# Altium integrated library capacitor_murata_1210.IntLib: 200 symbols (part 1 of 4)
Pins are listed as number, name and electrical type; pins without a type are passive.

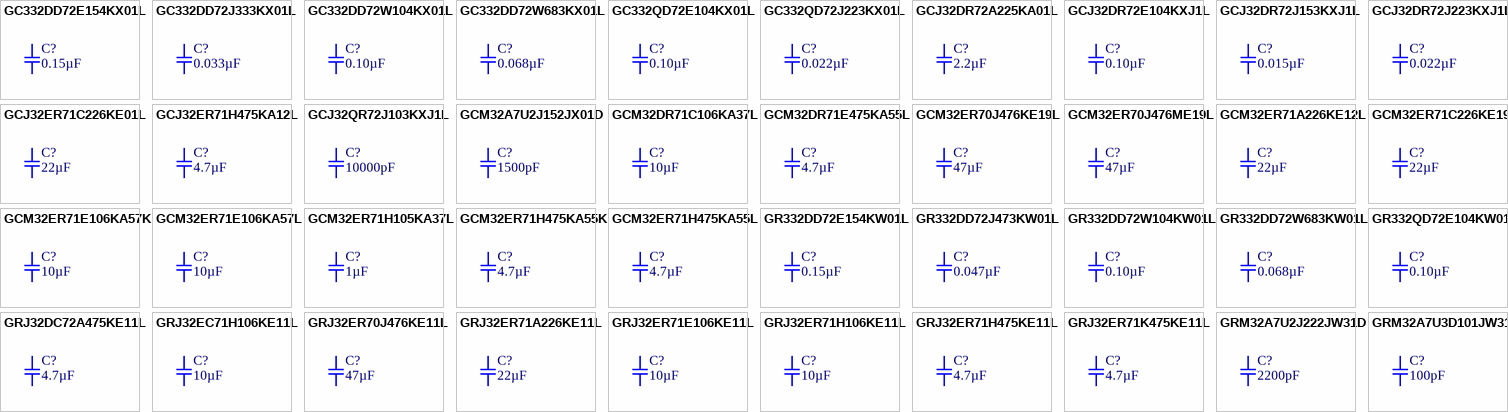
[diagram p0: symbols GC332DD72E154KX01L to GRM32A7U3D101JW31D]

## GC332DD72E154KX01L
designator C?, comment 0.15µF
CAP CER 0.15UF 250V X7T 1210; Part Number: GC332DD72E154KX01L; Manufacturer: Murata Electronics North America; Factory Stock: 0; Unit Price (USD): 1.1; Minimum Quantity: 1; Tolerance: ±10%; Datasheets: http://search.murata.co.jp/Ceramy/image/img/A01X/G101/ENG/GC332DD72E154KX01-01.pdf; Image: //media.digikey.com/Renders/Murata%20Renders/1210(GC3)320x200x250.jpg; Digi-Key Part Number: 490-13999-1-ND; Quantity Available: 997; @ qty: 0; Packaging: Cut Tape (CT); Series: GC3; Part Status: Active; Value: 0.15µF; Voltage: 250V; Temperature Coefficient: X7T; Operating Temperature: -55°C ~ 125°C; Features: -; Ratings: AEC-Q200; Applications: Automotive; Failure Rate: Surface Mount, MLCC; Mounting Type: 1210 (3225 Metric); Package / Case: 0.126" L x 0.098" W (3.20mm x 2.50mm); Size / Dimension: -; Height - Seated (Max): 0.079" (2.00mm); Thickness (Max): -; Lead Spacing: -
footprint SMD-1210C
pins: 1, 2

## GC332DD72J333KX01L
designator C?, comment 0.033µF
CAP CER 0.033UF 630V X7T 1210; Part Number: GC332DD72J333KX01L; Manufacturer: Murata Electronics North America; Factory Stock: 0; Unit Price (USD): 0.81; Minimum Quantity: 1; Tolerance: ±10%; Datasheets: http://search.murata.co.jp/Ceramy/image/img/A01X/G101/ENG/GC332DD72J333KX01-01.pdf; Image: //media.digikey.com/Renders/Murata%20Renders/1210(GC3)320x200x250.jpg; Digi-Key Part Number: 490-14000-1-ND; Quantity Available: 1000; @ qty: 0; Packaging: Cut Tape (CT); Series: GC3; Part Status: Active; Value: 0.033µF; Voltage: 630V; Temperature Coefficient: X7T; Operating Temperature: -55°C ~ 125°C; Features: -; Ratings: AEC-Q200; Applications: Automotive; Failure Rate: Surface Mount, MLCC; Mounting Type: 1210 (3225 Metric); Package / Case: 0.126" L x 0.098" W (3.20mm x 2.50mm); Size / Dimension: -; Height - Seated (Max): 0.079" (2.00mm); Thickness (Max): -; Lead Spacing: -
footprint SMD-1210C
pins: 1, 2

## GC332DD72W104KX01L
designator C?, comment 0.10µF
CAP CER 0.1UF 450V X7T 1210; Part Number: GC332DD72W104KX01L; Manufacturer: Murata Electronics North America; Factory Stock: 0; Unit Price (USD): 1.04; Minimum Quantity: 1; Tolerance: ±10%; Datasheets: http://search.murata.co.jp/Ceramy/image/img/A01X/G101/ENG/GC332DD72W104KX01-01.pdf; Image: //media.digikey.com/Renders/Murata%20Renders/1210(GC3)320x200x250.jpg; Digi-Key Part Number: 490-14002-1-ND; Quantity Available: 810; @ qty: 0; Packaging: Cut Tape (CT); Series: GC3; Part Status: Active; Value: 0.10µF; Voltage: 450V; Temperature Coefficient: X7T; Operating Temperature: -55°C ~ 125°C; Features: -; Ratings: AEC-Q200; Applications: Automotive; Failure Rate: Surface Mount, MLCC; Mounting Type: 1210 (3225 Metric); Package / Case: 0.126" L x 0.098" W (3.20mm x 2.50mm); Size / Dimension: -; Height - Seated (Max): 0.079" (2.00mm); Thickness (Max): -; Lead Spacing: -
footprint SMD-1210C
pins: 1, 2

## GC332DD72W683KX01L
designator C?, comment 0.068µF
CAP CER 0.068UF 450V X7T 1210; Part Number: GC332DD72W683KX01L; Manufacturer: Murata Electronics North America; Factory Stock: 0; Unit Price (USD): 1.01; Minimum Quantity: 1; Tolerance: ±10%; Datasheets: http://search.murata.co.jp/Ceramy/image/img/A01X/G101/ENG/GC332DD72W683KX01-01.pdf; Image: //media.digikey.com/Renders/Murata%20Renders/1210(GC3)320x200x250.jpg; Digi-Key Part Number: 490-14003-1-ND; Quantity Available: 901; @ qty: 0; Packaging: Cut Tape (CT); Series: GC3; Part Status: Active; Value: 0.068µF; Voltage: 450V; Temperature Coefficient: X7T; Operating Temperature: -55°C ~ 125°C; Features: -; Ratings: AEC-Q200; Applications: Automotive; Failure Rate: Surface Mount, MLCC; Mounting Type: 1210 (3225 Metric); Package / Case: 0.126" L x 0.098" W (3.20mm x 2.50mm); Size / Dimension: -; Height - Seated (Max): 0.079" (2.00mm); Thickness (Max): -; Lead Spacing: -
footprint SMD-1210C
pins: 1, 2

## GC332QD72E104KX01L
designator C?, comment 0.10µF
CAP CER 0.1UF 250V X7T 1210; Part Number: GC332QD72E104KX01L; Manufacturer: Murata Electronics North America; Factory Stock: 0; Unit Price (USD): 0.74; Minimum Quantity: 1; Tolerance: ±10%; Datasheets: http://search.murata.co.jp/Ceramy/image/img/A01X/G101/ENG/GC332QD72E104KX01-01.pdf; Image: //media.digikey.com/Renders/Murata%20Renders/1210(GC3)320x200x250.jpg; Digi-Key Part Number: 490-14004-1-ND; Quantity Available: 1843; @ qty: 0; Packaging: Cut Tape (CT); Series: GC3; Part Status: Active; Value: 0.10µF; Voltage: 250V; Temperature Coefficient: X7T; Operating Temperature: -55°C ~ 125°C; Features: -; Ratings: AEC-Q200; Applications: Automotive; Failure Rate: Surface Mount, MLCC; Mounting Type: 1210 (3225 Metric); Package / Case: 0.126" L x 0.098" W (3.20mm x 2.50mm); Size / Dimension: -; Height - Seated (Max): 0.059" (1.50mm); Thickness (Max): -; Lead Spacing: -
footprint SMD-1210C
pins: 1, 2

## GC332QD72J223KX01L
designator C?, comment 0.022µF
CAP CER 0.022UF 630V X7T 1210; Part Number: GC332QD72J223KX01L; Manufacturer: Murata Electronics North America; Factory Stock: 0; Unit Price (USD): 0.8; Minimum Quantity: 1; Tolerance: ±10%; Datasheets: http://search.murata.co.jp/Ceramy/image/img/A01X/G101/ENG/GC332QD72J223KX01-01.pdf; Image: //media.digikey.com/Renders/Murata%20Renders/1210(GC3)320x200x250.jpg; Digi-Key Part Number: 490-14005-1-ND; Quantity Available: 2000; @ qty: 0; Packaging: Cut Tape (CT); Series: GC3; Part Status: Active; Value: 0.022µF; Voltage: 630V; Temperature Coefficient: X7T; Operating Temperature: -55°C ~ 125°C; Features: -; Ratings: AEC-Q200; Applications: Automotive; Failure Rate: Surface Mount, MLCC; Mounting Type: 1210 (3225 Metric); Package / Case: 0.126" L x 0.098" W (3.20mm x 2.50mm); Size / Dimension: -; Height - Seated (Max): 0.059" (1.50mm); Thickness (Max): -; Lead Spacing: -
footprint SMD-1210C
pins: 1, 2

## GCJ32DR72A225KA01L
designator C?, comment 2.2µF
CAP CER 2.2UF 100V X7R 1210; Part Number: GCJ32DR72A225KA01L; Manufacturer: Murata Electronics North America; Factory Stock: 0; Unit Price (USD): 1.5; Minimum Quantity: 1; Tolerance: ±10%; Datasheets: http://www.murata.com/~/media/webrenewal/support/library/catalog/products/capacitor/mlcc/c03e.ashx; Image: //media.digikey.com/Renders/Murata%20Renders/1210-32R.jpg; Digi-Key Part Number: 490-5840-1-ND; Quantity Available: 84171; @ qty: 0; Packaging: Cut Tape (CT); Series: GCJ; Part Status: Active; Value: 2.2µF; Voltage: 100V; Temperature Coefficient: X7R; Operating Temperature: -55°C ~ 125°C; Features: Soft Termination; Ratings: AEC-Q200; Applications: Automotive, Boardflex Sensitive; Failure Rate: Surface Mount, MLCC; Mounting Type: 1210 (3225 Metric); Package / Case: 0.126" L x 0.098" W (3.20mm x 2.50mm); Size / Dimension: -; Height - Seated (Max): 0.079" (2.00mm); Thickness (Max): -; Lead Spacing: -
footprint SMD-1210C
pins: 1, 2

## GCJ32DR72E104KXJ1L
designator C?, comment 0.10µF
CAP CER 0.1UF 250V X7R 1210; Part Number: GCJ32DR72E104KXJ1L; Manufacturer: Murata Electronics North America; Factory Stock: 0; Unit Price (USD): 0.65; Minimum Quantity: 1; Tolerance: ±10%; Datasheets: http://www.murata.com/~/media/webrenewal/support/library/catalog/products/capacitor/mlcc/c03e.ashx; Image: //media.digikey.com/Renders/Murata%20Renders/1210-32R.jpg; Digi-Key Part Number: 490-5601-1-ND; Quantity Available: 598; @ qty: 0; Packaging: Cut Tape (CT); Series: GCJ; Part Status: Active; Value: 0.10µF; Voltage: 250V; Temperature Coefficient: X7R; Operating Temperature: -55°C ~ 125°C; Features: Soft Termination; Ratings: AEC-Q200; Applications: Automotive, Boardflex Sensitive; Failure Rate: Surface Mount, MLCC; Mounting Type: 1210 (3225 Metric); Package / Case: 0.126" L x 0.098" W (3.20mm x 2.50mm); Size / Dimension: -; Height - Seated (Max): 0.079" (2.00mm); Thickness (Max): -; Lead Spacing: -
footprint SMD-1210C
pins: 1, 2

## GCJ32DR72J153KXJ1L
designator C?, comment 0.015µF
CAP CER 0.015UF 630V X7R 1210; Part Number: GCJ32DR72J153KXJ1L; Manufacturer: Murata Electronics North America; Factory Stock: 0; Unit Price (USD): 0.81; Minimum Quantity: 1; Tolerance: ±10%; Datasheets: http://www.murata.com/~/media/webrenewal/support/library/catalog/products/capacitor/mlcc/c03e.ashx; Image: //media.digikey.com/Renders/Murata%20Renders/1210-32R.jpg; Digi-Key Part Number: 490-5613-1-ND; Quantity Available: 1158; @ qty: 0; Packaging: Cut Tape (CT); Series: GCJ; Part Status: Active; Value: 0.015µF; Voltage: 630V; Temperature Coefficient: X7R; Operating Temperature: -55°C ~ 125°C; Features: Soft Termination; Ratings: AEC-Q200; Applications: Automotive, Boardflex Sensitive; Failure Rate: Surface Mount, MLCC; Mounting Type: 1210 (3225 Metric); Package / Case: 0.126" L x 0.098" W (3.20mm x 2.50mm); Size / Dimension: -; Height - Seated (Max): 0.079" (2.00mm); Thickness (Max): -; Lead Spacing: -
footprint SMD-1210C
pins: 1, 2

## GCJ32DR72J223KXJ1L
designator C?, comment 0.022µF
CAP CER 0.022UF 630V X7R 1210; Part Number: GCJ32DR72J223KXJ1L; Manufacturer: Murata Electronics North America; Factory Stock: 0; Unit Price (USD): 0.81; Minimum Quantity: 1; Tolerance: ±10%; Datasheets: http://www.murata.com/~/media/webrenewal/support/library/catalog/products/capacitor/mlcc/c03e.ashx; Image: //media.digikey.com/Renders/Murata%20Renders/1210-32R.jpg; Digi-Key Part Number: 490-5614-1-ND; Quantity Available: 1747; @ qty: 0; Packaging: Cut Tape (CT); Series: GCJ; Part Status: Active; Value: 0.022µF; Voltage: 630V; Temperature Coefficient: X7R; Operating Temperature: -55°C ~ 125°C; Features: Soft Termination; Ratings: AEC-Q200; Applications: Automotive, Boardflex Sensitive; Failure Rate: Surface Mount, MLCC; Mounting Type: 1210 (3225 Metric); Package / Case: 0.126" L x 0.098" W (3.20mm x 2.50mm); Size / Dimension: -; Height - Seated (Max): 0.079" (2.00mm); Thickness (Max): -; Lead Spacing: -
footprint SMD-1210C
pins: 1, 2

## GCJ32ER71C226KE01L
designator C?, comment 22µF
CAP CER 22UF 16V X7R 1210; Part Number: GCJ32ER71C226KE01L; Manufacturer: Murata Electronics North America; Factory Stock: 0; Unit Price (USD): 1.37; Minimum Quantity: 1; Tolerance: ±10%; Datasheets: http://www.murata.com/~/media/webrenewal/support/library/catalog/products/capacitor/mlcc/c03e.ashx; Image: //media.digikey.com/Renders/Murata%20Renders/1210-32R.jpg; Digi-Key Part Number: 490-10560-1-ND; Quantity Available: 14766; @ qty: 0; Packaging: Cut Tape (CT); Series: GCJ; Part Status: Active; Value: 22µF; Voltage: 16V; Temperature Coefficient: X7R; Operating Temperature: -55°C ~ 125°C; Features: Soft Termination; Ratings: AEC-Q200; Applications: Automotive, Boardflex Sensitive; Failure Rate: Surface Mount, MLCC; Mounting Type: 1210 (3225 Metric); Package / Case: 0.126" L x 0.098" W (3.20mm x 2.50mm); Size / Dimension: -; Height - Seated (Max): 0.110" (2.80mm); Thickness (Max): -; Lead Spacing: -
footprint SMD-1210C
pins: 1, 2

## GCJ32ER71H475KA12L
designator C?, comment 4.7µF
CAP CER 4.7UF 50V X7R 1210; Part Number: GCJ32ER71H475KA12L; Manufacturer: Murata Electronics North America; Factory Stock: 0; Unit Price (USD): 1.64; Minimum Quantity: 1; Tolerance: ±10%; Datasheets: http://www.murata.com/~/media/webrenewal/support/library/catalog/products/capacitor/mlcc/c03e.ashx; Image: //media.digikey.com/Renders/Murata%20Renders/1210-32R.jpg; Digi-Key Part Number: 490-5850-1-ND; Quantity Available: 2424; @ qty: 0; Packaging: Cut Tape (CT); Series: GCJ; Part Status: Active; Value: 4.7µF; Voltage: 50V; Temperature Coefficient: X7R; Operating Temperature: -55°C ~ 125°C; Features: Soft Termination; Ratings: AEC-Q200; Applications: Automotive, Boardflex Sensitive; Failure Rate: Surface Mount, MLCC; Mounting Type: 1210 (3225 Metric); Package / Case: 0.126" L x 0.098" W (3.20mm x 2.50mm); Size / Dimension: -; Height - Seated (Max): 0.110" (2.80mm); Thickness (Max): -; Lead Spacing: -
footprint SMD-1210C
pins: 1, 2

## GCJ32QR72J103KXJ1L
designator C?, comment 10000pF
CAP CER 10000PF 630V X7R 1210; Part Number: GCJ32QR72J103KXJ1L; Manufacturer: Murata Electronics North America; Factory Stock: 0; Unit Price (USD): 0.77; Minimum Quantity: 1; Tolerance: ±10%; Datasheets: http://www.murata.com/~/media/webrenewal/support/library/catalog/products/capacitor/mlcc/c03e.ashx; Image: //media.digikey.com/Renders/Murata%20Renders/1210-32R.jpg; Digi-Key Part Number: 490-5612-1-ND; Quantity Available: 36455; @ qty: 0; Packaging: Cut Tape (CT); Series: GCJ; Part Status: Active; Value: 10000pF; Voltage: 630V; Temperature Coefficient: X7R; Operating Temperature: -55°C ~ 125°C; Features: Soft Termination; Ratings: AEC-Q200; Applications: Automotive, Boardflex Sensitive; Failure Rate: Surface Mount, MLCC; Mounting Type: 1210 (3225 Metric); Package / Case: 0.126" L x 0.098" W (3.20mm x 2.50mm); Size / Dimension: -; Height - Seated (Max): 0.059" (1.50mm); Thickness (Max): -; Lead Spacing: -
footprint SMD-1210C
pins: 1, 2

## GCM32A7U2J152JX01D
designator C?, comment 1500pF
CAP CER 1500PF 630V U2J 1210; Part Number: GCM32A7U2J152JX01D; Manufacturer: Murata Electronics North America; Factory Stock: 0; Unit Price (USD): 1.05; Minimum Quantity: 1; Tolerance: ±5%; Datasheets: http://www.murata.com/~/media/webrenewal/support/library/catalog/products/capacitor/mlcc/c03e.ashx; Image: //media.digikey.com/Renders/Murata%20Renders/1210-GCM.jpg; Digi-Key Part Number: 490-5050-1-ND; Quantity Available: 1229; @ qty: 0; Packaging: Cut Tape (CT); Series: GCM; Part Status: Active; Value: 1500pF; Voltage: 630V; Temperature Coefficient: U2J; Operating Temperature: -55°C ~ 125°C; Features: -; Ratings: AEC-Q200; Applications: Automotive; Failure Rate: Surface Mount, MLCC; Mounting Type: 1210 (3225 Metric); Package / Case: 0.126" L x 0.098" W (3.20mm x 2.50mm); Size / Dimension: -; Height - Seated (Max): 0.039" (1.00mm); Thickness (Max): -; Lead Spacing: -
footprint SMD-1210C
pins: 1, 2

## GCM32DR71C106KA37L
designator C?, comment 10µF
CAP CER 10UF 16V X7R 1210; Part Number: GCM32DR71C106KA37L; Manufacturer: Murata Electronics North America; Factory Stock: 0; Unit Price (USD): 1.15; Minimum Quantity: 1; Tolerance: ±10%; Datasheets: http://www.murata.com/~/media/webrenewal/support/library/catalog/products/capacitor/mlcc/c03e.ashx; Image: //media.digikey.com/Renders/Murata%20Renders/1210-32D.jpg; Digi-Key Part Number: 490-8062-1-ND; Quantity Available: 8543; @ qty: 0; Packaging: Cut Tape (CT); Series: GCM; Part Status: Active; Value: 10µF; Voltage: 16V; Temperature Coefficient: X7R; Operating Temperature: -55°C ~ 125°C; Features: -; Ratings: AEC-Q200; Applications: Automotive; Failure Rate: Surface Mount, MLCC; Mounting Type: 1210 (3225 Metric); Package / Case: 0.126" L x 0.098" W (3.20mm x 2.50mm); Size / Dimension: -; Height - Seated (Max): 0.087" (2.20mm); Thickness (Max): -; Lead Spacing: -
footprint SMD-1210C
pins: 1, 2

## GCM32DR71E475KA55L
designator C?, comment 4.7µF
CAP CER 4.7UF 25V X7R 1210; Part Number: GCM32DR71E475KA55L; Manufacturer: Murata Electronics North America; Factory Stock: 0; Unit Price (USD): 1.11; Minimum Quantity: 1; Tolerance: ±10%; Datasheets: http://www.murata.com/~/media/webrenewal/support/library/catalog/products/capacitor/mlcc/c03e.ashx; Image: //media.digikey.com/Renders/Murata%20Renders/1210-32D.jpg; Digi-Key Part Number: 490-8063-1-ND; Quantity Available: 14280; @ qty: 0; Packaging: Cut Tape (CT); Series: GCM; Part Status: Active; Value: 4.7µF; Voltage: 25V; Temperature Coefficient: X7R; Operating Temperature: -55°C ~ 125°C; Features: -; Ratings: AEC-Q200; Applications: Automotive; Failure Rate: Surface Mount, MLCC; Mounting Type: 1210 (3225 Metric); Package / Case: 0.126" L x 0.098" W (3.20mm x 2.50mm); Size / Dimension: -; Height - Seated (Max): 0.087" (2.20mm); Thickness (Max): -; Lead Spacing: -
footprint SMD-1210C
pins: 1, 2

## GCM32ER70J476KE19L
designator C?, comment 47µF
CAP CER 47UF 6.3V X7R 1210; Part Number: GCM32ER70J476KE19L; Manufacturer: Murata Electronics North America; Factory Stock: 0; Unit Price (USD): 1.24; Minimum Quantity: 1; Tolerance: ±10%; Datasheets: http://www.murata.com/~/media/webrenewal/support/library/catalog/products/capacitor/mlcc/c03e.ashx; Image: //media.digikey.com/Renders/Murata%20Renders/1210-32E.jpg; Digi-Key Part Number: 490-4844-1-ND; Quantity Available: 7834; @ qty: 0; Packaging: Cut Tape (CT); Series: GCM; Part Status: Active; Value: 47µF; Voltage: 6.3V; Temperature Coefficient: X7R; Operating Temperature: -55°C ~ 125°C; Features: -; Ratings: AEC-Q200; Applications: Automotive; Failure Rate: Surface Mount, MLCC; Mounting Type: 1210 (3225 Metric); Package / Case: 0.126" L x 0.098" W (3.20mm x 2.50mm); Size / Dimension: -; Height - Seated (Max): 0.106" (2.70mm); Thickness (Max): -; Lead Spacing: -
footprint SMD-1210C
pins: 1, 2

## GCM32ER70J476ME19L
designator C?, comment 47µF
CAP CER 47UF 6.3V X7R 1210; Part Number: GCM32ER70J476ME19L; Manufacturer: Murata Electronics North America; Factory Stock: 0; Unit Price (USD): 2.26; Minimum Quantity: 1; Tolerance: ±20%; Datasheets: http://www.murata.com/~/media/webrenewal/support/library/catalog/products/capacitor/mlcc/c03e.ashx; Image: //media.digikey.com/Renders/Murata%20Renders/1210-32E.jpg; Digi-Key Part Number: 490-8064-1-ND; Quantity Available: 3492; @ qty: 0; Packaging: Cut Tape (CT); Series: GCM; Part Status: Active; Value: 47µF; Voltage: 6.3V; Temperature Coefficient: X7R; Operating Temperature: -55°C ~ 125°C; Features: -; Ratings: AEC-Q200; Applications: Automotive; Failure Rate: Surface Mount, MLCC; Mounting Type: 1210 (3225 Metric); Package / Case: 0.126" L x 0.098" W (3.20mm x 2.50mm); Size / Dimension: -; Height - Seated (Max): 0.106" (2.70mm); Thickness (Max): -; Lead Spacing: -
footprint SMD-1210C
pins: 1, 2

## GCM32ER71A226KE12L
designator C?, comment 22µF
CAP CER 22UF 10V X7R 1210; Part Number: GCM32ER71A226KE12L; Manufacturer: Murata Electronics North America; Factory Stock: 0; Unit Price (USD): 1.59; Minimum Quantity: 1; Tolerance: ±10%; Datasheets: http://www.murata.com/~/media/webrenewal/support/library/catalog/products/capacitor/mlcc/c03e.ashx; Image: //media.digikey.com/Renders/Murata%20Renders/1210-32E.jpg; Digi-Key Part Number: 490-4797-1-ND; Quantity Available: 5208; @ qty: 0; Packaging: Cut Tape (CT); Series: GCM; Part Status: Active; Value: 22µF; Voltage: 10V; Temperature Coefficient: X7R; Operating Temperature: -55°C ~ 125°C; Features: -; Ratings: AEC-Q200; Applications: Automotive; Failure Rate: Surface Mount, MLCC; Mounting Type: 1210 (3225 Metric); Package / Case: 0.126" L x 0.098" W (3.20mm x 2.50mm); Size / Dimension: -; Height - Seated (Max): 0.106" (2.70mm); Thickness (Max): -; Lead Spacing: -
footprint SMD-1210C
pins: 1, 2

## GCM32ER71C226KE19L
designator C?, comment 22µF
CAP CER 22UF 16V X7R 1210; Part Number: GCM32ER71C226KE19L; Manufacturer: Murata Electronics North America; Factory Stock: 0; Unit Price (USD): 2.11; Minimum Quantity: 1; Tolerance: ±10%; Datasheets: http://www.murata.com/~/media/webrenewal/support/library/catalog/products/capacitor/mlcc/c03e.ashx; Image: //media.digikey.com/Renders/Murata%20Renders/1210-32E.jpg; Digi-Key Part Number: 490-5242-1-ND; Quantity Available: 6640; @ qty: 0; Packaging: Cut Tape (CT); Series: GCM; Part Status: Active; Value: 22µF; Voltage: 16V; Temperature Coefficient: X7R; Operating Temperature: -55°C ~ 125°C; Features: -; Ratings: AEC-Q200; Applications: Automotive; Failure Rate: Surface Mount, MLCC; Mounting Type: 1210 (3225 Metric); Package / Case: 0.126" L x 0.098" W (3.20mm x 2.50mm); Size / Dimension: -; Height - Seated (Max): 0.106" (2.70mm); Thickness (Max): -; Lead Spacing: -
footprint SMD-1210C
pins: 1, 2

## GCM32ER71E106KA57K
designator C?, comment 10µF
CAP CER 10UF 25V X7R 1210; Part Number: GCM32ER71E106KA57K; Manufacturer: Murata Electronics North America; Factory Stock: 0; Unit Price (USD): 0.88; Minimum Quantity: 1; Tolerance: ±10%; Datasheets: http://www.murata.com/~/media/webrenewal/support/library/catalog/products/capacitor/mlcc/c03e.ashx; Image: //media.digikey.com/photos/Murata%20Photos/GCM32ER71E106KA57L.JPG; Digi-Key Part Number: 490-11170-1-ND; Quantity Available: 5473; @ qty: 0; Packaging: Cut Tape (CT); Series: GCM; Part Status: Active; Value: 10µF; Voltage: 25V; Temperature Coefficient: X7R; Operating Temperature: -55°C ~ 125°C; Features: -; Ratings: AEC-Q200; Applications: Automotive; Failure Rate: Surface Mount, MLCC; Mounting Type: 1210 (3225 Metric); Package / Case: 0.126" L x 0.098" W (3.20mm x 2.50mm); Size / Dimension: -; Height - Seated (Max): 0.106" (2.70mm); Thickness (Max): -; Lead Spacing: -
footprint SMD-1210C
pins: 1, 2

## GCM32ER71E106KA57L
designator C?, comment 10µF
CAP CER 10UF 25V X7R 1210; Part Number: GCM32ER71E106KA57L; Manufacturer: Murata Electronics North America; Factory Stock: 0; Unit Price (USD): 0.88; Minimum Quantity: 1; Tolerance: ±10%; Datasheets: http://www.murata.com/~/media/webrenewal/support/library/catalog/products/capacitor/mlcc/c03e.ashx; Image: //media.digikey.com/Renders/Murata%20Renders/1210-32E.jpg; Digi-Key Part Number: 490-4798-1-ND; Quantity Available: 42787; @ qty: 0; Packaging: Cut Tape (CT); Series: GCM; Part Status: Active; Value: 10µF; Voltage: 25V; Temperature Coefficient: X7R; Operating Temperature: -55°C ~ 125°C; Features: -; Ratings: AEC-Q200; Applications: Automotive; Failure Rate: Surface Mount, MLCC; Mounting Type: 1210 (3225 Metric); Package / Case: 0.126" L x 0.098" W (3.20mm x 2.50mm); Size / Dimension: -; Height - Seated (Max): 0.106" (2.70mm); Thickness (Max): -; Lead Spacing: -
footprint SMD-1210C
pins: 1, 2

## GCM32ER71H105KA37L
designator C?, comment 1µF
CAP CER 1UF 50V X7R 1210; Part Number: GCM32ER71H105KA37L; Manufacturer: Murata Electronics North America; Factory Stock: 0; Unit Price (USD): 0.94; Minimum Quantity: 1; Tolerance: ±10%; Datasheets: http://www.murata.com/~/media/webrenewal/support/library/catalog/products/capacitor/mlcc/c03e.ashx; Image: //media.digikey.com/Renders/Murata%20Renders/1210-32E.jpg; Digi-Key Part Number: 490-8065-1-ND; Quantity Available: 178; @ qty: 0; Packaging: Cut Tape (CT); Series: GCM; Part Status: Active; Value: 1µF; Voltage: 50V; Temperature Coefficient: X7R; Operating Temperature: -55°C ~ 125°C; Features: -; Ratings: AEC-Q200; Applications: Automotive; Failure Rate: Surface Mount, MLCC; Mounting Type: 1210 (3225 Metric); Package / Case: 0.126" L x 0.098" W (3.20mm x 2.50mm); Size / Dimension: -; Height - Seated (Max): 0.106" (2.70mm); Thickness (Max): -; Lead Spacing: -
footprint SMD-1210C
pins: 1, 2

## GCM32ER71H475KA55K
designator C?, comment 4.7µF
CAP CER 4.7UF 50V X7R 1210; Part Number: GCM32ER71H475KA55K; Manufacturer: Murata Electronics North America; Factory Stock: 0; Unit Price (USD): 1.59; Minimum Quantity: 1; Tolerance: ±10%; Datasheets: http://www.murata.com/~/media/webrenewal/support/library/catalog/products/capacitor/mlcc/c03e.ashx; Image: //media.digikey.com/Renders/Murata%20Renders/1210-32E.jpg; Digi-Key Part Number: 490-8066-1-ND; Quantity Available: 37891; @ qty: 0; Packaging: Cut Tape (CT); Series: GCM; Part Status: Active; Value: 4.7µF; Voltage: 50V; Temperature Coefficient: X7R; Operating Temperature: -55°C ~ 125°C; Features: -; Ratings: AEC-Q200; Applications: Automotive; Failure Rate: Surface Mount, MLCC; Mounting Type: 1210 (3225 Metric); Package / Case: 0.126" L x 0.098" W (3.20mm x 2.50mm); Size / Dimension: -; Height - Seated (Max): 0.106" (2.70mm); Thickness (Max): -; Lead Spacing: -
footprint SMD-1210C
pins: 1, 2

## GCM32ER71H475KA55L
designator C?, comment 4.7µF
CAP CER 4.7UF 50V X7R 1210; Part Number: GCM32ER71H475KA55L; Manufacturer: Murata Electronics North America; Factory Stock: 0; Unit Price (USD): 1.59; Minimum Quantity: 1; Tolerance: ±10%; Datasheets: http://www.murata.com/~/media/webrenewal/support/library/catalog/products/capacitor/mlcc/c03e.ashx; Image: //media.digikey.com/Renders/Murata%20Renders/1210-32E.jpg; Digi-Key Part Number: 490-4799-1-ND; Quantity Available: 48126; @ qty: 0; Packaging: Cut Tape (CT); Series: GCM; Part Status: Active; Value: 4.7µF; Voltage: 50V; Temperature Coefficient: X7R; Operating Temperature: -55°C ~ 125°C; Features: -; Ratings: AEC-Q200; Applications: Automotive; Failure Rate: Surface Mount, MLCC; Mounting Type: 1210 (3225 Metric); Package / Case: 0.126" L x 0.098" W (3.20mm x 2.50mm); Size / Dimension: -; Height - Seated (Max): 0.106" (2.70mm); Thickness (Max): -; Lead Spacing: -
footprint SMD-1210C
pins: 1, 2

## GR332DD72E154KW01L
designator C?, comment 0.15µF
CAP CER 0.15UF 250V X7T 1210; Part Number: GR332DD72E154KW01L; Manufacturer: Murata Electronics North America; Factory Stock: 0; Unit Price (USD): 1.17; Minimum Quantity: 1; Tolerance: ±10%; Datasheets: http://www.murata.com/~/media/webrenewal/support/library/catalog/products/capacitor/mlcc/c02e.pdf; Image: //media.digikey.com/Renders/Murata%20Renders/1210-3225-16.jpg; Digi-Key Part Number: 490-5730-1-ND; Quantity Available: 1678; @ qty: 0; Packaging: Cut Tape (CT); Series: GR3; Part Status: Active; Value: 0.15µF; Voltage: 250V; Temperature Coefficient: X7T; Operating Temperature: -55°C ~ 125°C; Features: -; Ratings: -; Applications: General Purpose; Failure Rate: Surface Mount, MLCC; Mounting Type: 1210 (3225 Metric); Package / Case: 0.126" L x 0.098" W (3.20mm x 2.50mm); Size / Dimension: -; Height - Seated (Max): 0.079" (2.00mm); Thickness (Max): -; Lead Spacing: -
footprint SMD-1210C
pins: 1, 2

## GR332DD72J473KW01L
designator C?, comment 0.047µF
CAP CER 0.047UF 630V X7T 1210; Part Number: GR332DD72J473KW01L; Manufacturer: Murata Electronics North America; Factory Stock: 0; Unit Price (USD): 1.05; Minimum Quantity: 1; Tolerance: ±10%; Datasheets: http://www.murata.com/~/media/webrenewal/support/library/catalog/products/capacitor/mlcc/c02e.pdf; Image: //media.digikey.com/Renders/Murata%20Renders/1210-3225-16.jpg; Digi-Key Part Number: 490-5732-1-ND; Quantity Available: 2474; @ qty: 0; Packaging: Cut Tape (CT); Series: GR3; Part Status: Active; Value: 0.047µF; Voltage: 630V; Temperature Coefficient: X7T; Operating Temperature: -55°C ~ 125°C; Features: -; Ratings: -; Applications: General Purpose; Failure Rate: Surface Mount, MLCC; Mounting Type: 1210 (3225 Metric); Package / Case: 0.126" L x 0.098" W (3.20mm x 2.50mm); Size / Dimension: -; Height - Seated (Max): 0.079" (2.00mm); Thickness (Max): -; Lead Spacing: -
footprint SMD-1210C
pins: 1, 2

## GR332DD72W104KW01L
designator C?, comment 0.10µF
CAP CER 0.1UF 450V X7T 1210; Part Number: GR332DD72W104KW01L; Manufacturer: Murata Electronics North America; Factory Stock: 0; Unit Price (USD): 1.12; Minimum Quantity: 1; Tolerance: ±10%; Datasheets: http://www.murata.com/~/media/webrenewal/support/library/catalog/products/capacitor/mlcc/c02e.pdf; Image: //media.digikey.com/Renders/Murata%20Renders/1210-3225-16.jpg; Digi-Key Part Number: 490-5733-1-ND; Quantity Available: 7853; @ qty: 0; Packaging: Cut Tape (CT); Series: GR3; Part Status: Active; Value: 0.10µF; Voltage: 450V; Temperature Coefficient: X7T; Operating Temperature: -55°C ~ 125°C; Features: -; Ratings: -; Applications: General Purpose; Failure Rate: Surface Mount, MLCC; Mounting Type: 1210 (3225 Metric); Package / Case: 0.126" L x 0.098" W (3.20mm x 2.50mm); Size / Dimension: -; Height - Seated (Max): 0.079" (2.00mm); Thickness (Max): -; Lead Spacing: -
footprint SMD-1210C
pins: 1, 2

## GR332DD72W683KW01L
designator C?, comment 0.068µF
CAP CER 0.068UF 450V X7T 1210; Part Number: GR332DD72W683KW01L; Manufacturer: Murata Electronics North America; Factory Stock: 0; Unit Price (USD): 1.08; Minimum Quantity: 1; Tolerance: ±10%; Datasheets: http://www.murata.com/~/media/webrenewal/support/library/catalog/products/capacitor/mlcc/c02e.pdf; Image: //media.digikey.com/Renders/Murata%20Renders/1210-3225-16.jpg; Digi-Key Part Number: 490-5734-1-ND; Quantity Available: 1731; @ qty: 0; Packaging: Cut Tape (CT); Series: GR3; Part Status: Active; Value: 0.068µF; Voltage: 450V; Temperature Coefficient: X7T; Operating Temperature: -55°C ~ 125°C; Features: -; Ratings: -; Applications: General Purpose; Failure Rate: Surface Mount, MLCC; Mounting Type: 1210 (3225 Metric); Package / Case: 0.126" L x 0.098" W (3.20mm x 2.50mm); Size / Dimension: -; Height - Seated (Max): 0.079" (2.00mm); Thickness (Max): -; Lead Spacing: -
footprint SMD-1210C
pins: 1, 2

## GR332QD72E104KW01L
designator C?, comment 0.10µF
CAP CER 0.1UF 250V X7T 1210; Part Number: GR332QD72E104KW01L; Manufacturer: Murata Electronics North America; Factory Stock: 0; Unit Price (USD): 0.83; Minimum Quantity: 1; Tolerance: ±10%; Datasheets: http://www.murata.com/~/media/webrenewal/support/library/catalog/products/capacitor/mlcc/c02e.pdf; Image: //media.digikey.com/Renders/Murata%20Renders/1210-3225-16.jpg; Digi-Key Part Number: 490-5735-1-ND; Quantity Available: 6850; @ qty: 0; Packaging: Cut Tape (CT); Series: GR3; Part Status: Active; Value: 0.10µF; Voltage: 250V; Temperature Coefficient: X7T; Operating Temperature: -55°C ~ 125°C; Features: -; Ratings: -; Applications: General Purpose; Failure Rate: Surface Mount, MLCC; Mounting Type: 1210 (3225 Metric); Package / Case: 0.126" L x 0.098" W (3.20mm x 2.50mm); Size / Dimension: -; Height - Seated (Max): 0.059" (1.50mm); Thickness (Max): -; Lead Spacing: -
footprint SMD-1210C
pins: 1, 2

## GRJ32DC72A475KE11L
designator C?, comment 4.7µF
CAP CER 4.7UF 100V X7S 1210; Part Number: GRJ32DC72A475KE11L; Manufacturer: Murata Electronics North America; Factory Stock: 0; Unit Price (USD): 1.38; Minimum Quantity: 1; Tolerance: ±10%; Datasheets: http://www.murata.com/~/media/webrenewal/support/library/catalog/products/capacitor/mlcc/c02e.pdf; Image: //media.digikey.com/Renders/Murata%20Renders/1210-3225-16.jpg; Digi-Key Part Number: 490-10955-1-ND; Quantity Available: 9689; @ qty: 0; Packaging: Cut Tape (CT); Series: GRJ; Part Status: Active; Value: 4.7µF; Voltage: 100V; Temperature Coefficient: X7S; Operating Temperature: -55°C ~ 125°C; Features: Soft Termination; Ratings: -; Applications: Boardflex Sensitive; Failure Rate: Surface Mount, MLCC; Mounting Type: 1210 (3225 Metric); Package / Case: 0.126" L x 0.098" W (3.20mm x 2.50mm); Size / Dimension: -; Height - Seated (Max): 0.091" (2.30mm); Thickness (Max): -; Lead Spacing: -
footprint SMD-1210C
pins: 1, 2

## GRJ32EC71H106KE11L
designator C?, comment 10µF
CAP CER 10UF 50V X7S 1210; Part Number: GRJ32EC71H106KE11L; Manufacturer: Murata Electronics North America; Factory Stock: 0; Unit Price (USD): 1.16; Minimum Quantity: 1; Tolerance: ±10%; Datasheets: http://www.murata.com/~/media/webrenewal/support/library/catalog/products/capacitor/mlcc/c02e.pdf; Image: //media.digikey.com/Renders/Murata%20Renders/1210-3225-16.jpg; Digi-Key Part Number: 490-10956-1-ND; Quantity Available: 1076; @ qty: 0; Packaging: Cut Tape (CT); Series: GRJ; Part Status: Active; Value: 10µF; Voltage: 50V; Temperature Coefficient: X7S; Operating Temperature: -55°C ~ 125°C; Features: Soft Termination; Ratings: -; Applications: Boardflex Sensitive; Failure Rate: Surface Mount, MLCC; Mounting Type: 1210 (3225 Metric); Package / Case: 0.126" L x 0.098" W (3.20mm x 2.50mm); Size / Dimension: -; Height - Seated (Max): 0.110" (2.80mm); Thickness (Max): -; Lead Spacing: -
footprint SMD-1210C
pins: 1, 2

## GRJ32ER70J476KE11L
designator C?, comment 47µF
CAP CER 47UF 6.3V X7R 1210; Part Number: GRJ32ER70J476KE11L; Manufacturer: Murata Electronics North America; Factory Stock: 0; Unit Price (USD): 1.39; Minimum Quantity: 1; Tolerance: ±10%; Datasheets: http://www.murata.com/~/media/webrenewal/support/library/catalog/products/capacitor/mlcc/c02e.pdf; Image: //media.digikey.com/Renders/Murata%20Renders/1210-3225-16.jpg; Digi-Key Part Number: 490-10957-1-ND; Quantity Available: 2647; @ qty: 0; Packaging: Cut Tape (CT); Series: GRJ; Part Status: Active; Value: 47µF; Voltage: 6.3V; Temperature Coefficient: X7R; Operating Temperature: -55°C ~ 125°C; Features: Soft Termination; Ratings: -; Applications: Boardflex Sensitive; Failure Rate: Surface Mount, MLCC; Mounting Type: 1210 (3225 Metric); Package / Case: 0.126" L x 0.098" W (3.20mm x 2.50mm); Size / Dimension: -; Height - Seated (Max): 0.110" (2.80mm); Thickness (Max): -; Lead Spacing: -
footprint SMD-1210C
pins: 1, 2

## GRJ32ER71A226KE11L
designator C?, comment 22µF
CAP CER 22UF 10V X7R 1210; Part Number: GRJ32ER71A226KE11L; Manufacturer: Murata Electronics North America; Factory Stock: 0; Unit Price (USD): 1.21; Minimum Quantity: 1; Tolerance: ±10%; Datasheets: http://www.murata.com/~/media/webrenewal/support/library/catalog/products/capacitor/mlcc/c02e.pdf; Image: //media.digikey.com/Renders/Murata%20Renders/1210-3225-16.jpg; Digi-Key Part Number: 490-10958-1-ND; Quantity Available: 1905; @ qty: 0; Packaging: Cut Tape (CT); Series: GRJ; Part Status: Active; Value: 22µF; Voltage: 10V; Temperature Coefficient: X7R; Operating Temperature: -55°C ~ 125°C; Features: Soft Termination; Ratings: -; Applications: Boardflex Sensitive; Failure Rate: Surface Mount, MLCC; Mounting Type: 1210 (3225 Metric); Package / Case: 0.126" L x 0.098" W (3.20mm x 2.50mm); Size / Dimension: -; Height - Seated (Max): 0.110" (2.80mm); Thickness (Max): -; Lead Spacing: -
footprint SMD-1210C
pins: 1, 2

## GRJ32ER71E106KE11L
designator C?, comment 10µF
CAP CER 10UF 25V X7R 1210; Part Number: GRJ32ER71E106KE11L; Manufacturer: Murata Electronics North America; Factory Stock: 0; Unit Price (USD): 1.08; Minimum Quantity: 1; Tolerance: ±10%; Datasheets: http://www.murata.com/~/media/webrenewal/support/library/catalog/products/capacitor/mlcc/c02e.pdf; Image: //media.digikey.com/Renders/Murata%20Renders/1210-3225-16.jpg; Digi-Key Part Number: 490-10960-1-ND; Quantity Available: 1747; @ qty: 0; Packaging: Cut Tape (CT); Series: GRJ; Part Status: Active; Value: 10µF; Voltage: 25V; Temperature Coefficient: X7R; Operating Temperature: -55°C ~ 125°C; Features: Soft Termination; Ratings: -; Applications: Boardflex Sensitive; Failure Rate: Surface Mount, MLCC; Mounting Type: 1210 (3225 Metric); Package / Case: 0.126" L x 0.098" W (3.20mm x 2.50mm); Size / Dimension: -; Height - Seated (Max): 0.110" (2.80mm); Thickness (Max): -; Lead Spacing: -
footprint SMD-1210C
pins: 1, 2

## GRJ32ER71H106KE11L
designator C?, comment 10µF
CAP CER 10UF 50V X7R 1210; Part Number: GRJ32ER71H106KE11L; Manufacturer: Murata Electronics North America; Factory Stock: 0; Unit Price (USD): 1.09; Minimum Quantity: 1; Tolerance: ±10%; Datasheets: http://www.murata.com/~/media/webrenewal/support/library/catalog/products/capacitor/mlcc/c02e.pdf; Image: //media.digikey.com/Renders/Murata%20Renders/1210-3225-16.jpg; Digi-Key Part Number: 490-10961-1-ND; Quantity Available: 1221; @ qty: 0; Packaging: Cut Tape (CT); Series: GRJ; Part Status: Active; Value: 10µF; Voltage: 50V; Temperature Coefficient: X7R; Operating Temperature: -55°C ~ 125°C; Features: Soft Termination; Ratings: -; Applications: Boardflex Sensitive; Failure Rate: Surface Mount, MLCC; Mounting Type: 1210 (3225 Metric); Package / Case: 0.126" L x 0.098" W (3.20mm x 2.50mm); Size / Dimension: -; Height - Seated (Max): 0.110" (2.80mm); Thickness (Max): -; Lead Spacing: -
footprint SMD-1210C
pins: 1, 2

## GRJ32ER71H475KE11L
designator C?, comment 4.7µF
CAP CER 4.7UF 50V X7R 1210; Part Number: GRJ32ER71H475KE11L; Manufacturer: Murata Electronics North America; Factory Stock: 0; Unit Price (USD): 0.89; Minimum Quantity: 1; Tolerance: ±10%; Datasheets: http://www.murata.com/~/media/webrenewal/support/library/catalog/products/capacitor/mlcc/c02e.pdf; Image: //media.digikey.com/Renders/Murata%20Renders/1210-3225-16.jpg; Digi-Key Part Number: 490-10962-1-ND; Quantity Available: 1999; @ qty: 0; Packaging: Cut Tape (CT); Series: GRJ; Part Status: Active; Value: 4.7µF; Voltage: 50V; Temperature Coefficient: X7R; Operating Temperature: -55°C ~ 125°C; Features: Soft Termination; Ratings: -; Applications: Boardflex Sensitive; Failure Rate: Surface Mount, MLCC; Mounting Type: 1210 (3225 Metric); Package / Case: 0.126" L x 0.098" W (3.20mm x 2.50mm); Size / Dimension: -; Height - Seated (Max): 0.110" (2.80mm); Thickness (Max): -; Lead Spacing: -
footprint SMD-1210C
pins: 1, 2

## GRJ32ER71K475KE11L
designator C?, comment 4.7µF
CAP CER 4.7UF 80V X7R 1210; Part Number: GRJ32ER71K475KE11L; Manufacturer: Murata Electronics North America; Factory Stock: 0; Unit Price (USD): 1.32; Minimum Quantity: 1; Tolerance: ±10%; Datasheets: http://www.murata.com/~/media/webrenewal/support/library/catalog/products/capacitor/mlcc/c02e.pdf; Image: //media.digikey.com/Renders/Murata%20Renders/1210-3225-16.jpg; Digi-Key Part Number: 490-10963-1-ND; Quantity Available: 6218; @ qty: 0; Packaging: Cut Tape (CT); Series: GRJ; Part Status: Active; Value: 4.7µF; Voltage: 80V; Temperature Coefficient: X7R; Operating Temperature: -55°C ~ 125°C; Features: Derating Recommended, Soft Termination; Ratings: -; Applications: Boardflex Sensitive; Failure Rate: Surface Mount, MLCC; Mounting Type: 1210 (3225 Metric); Package / Case: 0.126" L x 0.098" W (3.20mm x 2.50mm); Size / Dimension: -; Height - Seated (Max): 0.110" (2.80mm); Thickness (Max): -; Lead Spacing: -
footprint SMD-1210C
pins: 1, 2

## GRM32A7U2J222JW31D
designator C?, comment 2200pF
CAP CER 2200PF 630V U2J 1210; Part Number: GRM32A7U2J222JW31D; Manufacturer: Murata Electronics North America; Factory Stock: 0; Unit Price (USD): 0.64; Minimum Quantity: 1; Tolerance: ±5%; Datasheets: http://www.murata.com/~/media/webrenewal/support/library/catalog/products/capacitor/mlcc/c02e.pdf; Image: //media.digikey.com/Renders/Murata%20Renders/1210-3225-16.jpg; Digi-Key Part Number: 490-4298-1-ND; Quantity Available: 3195; @ qty: 0; Packaging: Cut Tape (CT); Series: GRM; Part Status: Active; Value: 2200pF; Voltage: 630V; Temperature Coefficient: U2J; Operating Temperature: -55°C ~ 125°C; Features: -; Ratings: -; Applications: General Purpose; Failure Rate: Surface Mount, MLCC; Mounting Type: 1210 (3225 Metric); Package / Case: 0.126" L x 0.098" W (3.20mm x 2.50mm); Size / Dimension: -; Height - Seated (Max): 0.039" (1.00mm); Thickness (Max): -; Lead Spacing: -
footprint SMD-1210C
pins: 1, 2

## GRM32A7U3D101JW31D
designator C?, comment 100pF
CAP CER 100PF 2KV U2J 1210; Part Number: GRM32A7U3D101JW31D; Manufacturer: Murata Electronics North America; Factory Stock: 0; Unit Price (USD): 0.78; Minimum Quantity: 1; Tolerance: ±5%; Voltage: 2000V (2kV); Datasheets: http://www.murata.com/~/media/webrenewal/support/library/catalog/products/capacitor/mlcc/c02e.pdf; Image: //media.digikey.com/Renders/Murata%20Renders/1210-3225-16.jpg; Digi-Key Part Number: 490-12017-1-ND; Quantity Available: 6326; @ qty: 0; Packaging: Cut Tape (CT); Series: GRM; Part Status: Active; Value: 100pF; Temperature Coefficient: U2J; Operating Temperature: -55°C ~ 125°C; Features: -; Ratings: -; Applications: General Purpose; Failure Rate: Surface Mount, MLCC; Mounting Type: 1210 (3225 Metric); Package / Case: 0.126" L x 0.098" W (3.20mm x 2.50mm); Size / Dimension: -; Height - Seated (Max): 0.039" (1.00mm); Thickness (Max): -; Lead Spacing: -
footprint SMD-1210C
pins: 1, 2

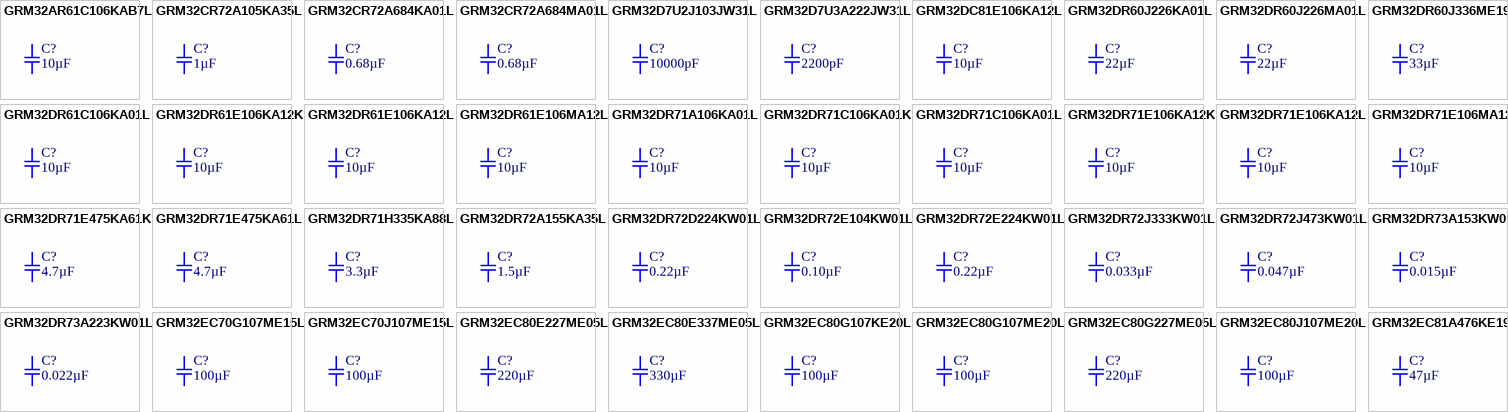
[diagram p1: symbols GRM32AR61C106KAB7L to GRM32EC81A476KE19L]

## GRM32AR61C106KAB7L
designator C?, comment 10µF
CAP CER 10UF 16V X5R 1210; Part Number: GRM32AR61C106KAB7L; Manufacturer: Murata Electronics North America; Factory Stock: 0; Unit Price (USD): 0.61; Minimum Quantity: 1; Tolerance: ±10%; Datasheets: http://www.murata.com/~/media/webrenewal/support/library/catalog/products/capacitor/mlcc/c02e.pdf; Image: //media.digikey.com/Renders/Murata%20Renders/1210-3225-16.jpg; Digi-Key Part Number: 490-8349-1-ND; Quantity Available: 6604; @ qty: 0; Packaging: Cut Tape (CT); Series: GRM; Part Status: Active; Value: 10µF; Voltage: 16V; Temperature Coefficient: X5R; Operating Temperature: -55°C ~ 85°C; Features: -; Ratings: -; Applications: General Purpose; Failure Rate: Surface Mount, MLCC; Mounting Type: 1210 (3225 Metric); Package / Case: 0.126" L x 0.098" W (3.20mm x 2.50mm); Size / Dimension: -; Height - Seated (Max): 0.039" (1.00mm); Thickness (Max): -; Lead Spacing: -
footprint SMD-1210C
pins: 1, 2

## GRM32CR72A105KA35L
designator C?, comment 1µF
CAP CER 1UF 100V X7R 1210; Part Number: GRM32CR72A105KA35L; Manufacturer: Murata Electronics North America; Factory Stock: 0; Unit Price (USD): 0.83; Minimum Quantity: 1; Tolerance: ±10%; Datasheets: http://www.murata.com/~/media/webrenewal/support/library/catalog/products/capacitor/mlcc/c02e.pdf; Image: //media.digikey.com/Renders/Murata%20Renders/1210-3225-16.jpg; Digi-Key Part Number: 490-8627-1-ND; Quantity Available: 22273; @ qty: 0; Packaging: Cut Tape (CT); Series: GRM; Part Status: Active; Value: 1µF; Voltage: 100V; Temperature Coefficient: X7R; Operating Temperature: -55°C ~ 125°C; Features: -; Ratings: -; Applications: General Purpose; Failure Rate: Surface Mount, MLCC; Mounting Type: 1210 (3225 Metric); Package / Case: 0.126" L x 0.098" W (3.20mm x 2.50mm); Size / Dimension: -; Height - Seated (Max): 0.071" (1.80mm); Thickness (Max): -; Lead Spacing: -
footprint SMD-1210C
pins: 1, 2

## GRM32CR72A684KA01L
designator C?, comment 0.68µF
CAP CER 0.68UF 100V X7R 1210; Part Number: GRM32CR72A684KA01L; Manufacturer: Murata Electronics North America; Factory Stock: 0; Unit Price (USD): 0.94; Minimum Quantity: 1; Tolerance: ±10%; Datasheets: http://www.murata.com/~/media/webrenewal/support/library/catalog/products/capacitor/mlcc/c02e.pdf; Image: //media.digikey.com/Renders/Murata%20Renders/1210-3225-16.jpg; Digi-Key Part Number: 490-1854-1-ND; Quantity Available: 6598; @ qty: 0; Packaging: Cut Tape (CT); Series: GRM; Part Status: Active; Value: 0.68µF; Voltage: 100V; Temperature Coefficient: X7R; Operating Temperature: -55°C ~ 125°C; Features: -; Ratings: -; Applications: General Purpose; Failure Rate: Surface Mount, MLCC; Mounting Type: 1210 (3225 Metric); Package / Case: 0.126" L x 0.098" W (3.20mm x 2.50mm); Size / Dimension: -; Height - Seated (Max): 0.071" (1.80mm); Thickness (Max): -; Lead Spacing: -
footprint SMD-1210C
pins: 1, 2

## GRM32CR72A684MA01L
designator C?, comment 0.68µF
CAP CER 0.68UF 100V X7R 1210; Part Number: GRM32CR72A684MA01L; Manufacturer: Murata Electronics North America; Factory Stock: 0; Unit Price (USD): 0.94; Minimum Quantity: 1; Tolerance: ±20%; Datasheets: http://www.murata.com/~/media/webrenewal/support/library/catalog/products/capacitor/mlcc/c02e.pdf; Image: //media.digikey.com/Renders/Murata%20Renders/1210-3225-16.jpg; Digi-Key Part Number: 490-1855-1-ND; Quantity Available: 3600; @ qty: 0; Packaging: Cut Tape (CT); Series: GRM; Part Status: Active; Value: 0.68µF; Voltage: 100V; Temperature Coefficient: X7R; Operating Temperature: -55°C ~ 125°C; Features: -; Ratings: -; Applications: General Purpose; Failure Rate: Surface Mount, MLCC; Mounting Type: 1210 (3225 Metric); Package / Case: 0.126" L x 0.098" W (3.20mm x 2.50mm); Size / Dimension: -; Height - Seated (Max): 0.071" (1.80mm); Thickness (Max): -; Lead Spacing: -
footprint SMD-1210C
pins: 1, 2

## GRM32D7U2J103JW31L
designator C?, comment 10000pF
CAP CER 10000PF 630V U2J 1210; Part Number: GRM32D7U2J103JW31L; Manufacturer: Murata Electronics North America; Factory Stock: 0; Unit Price (USD): 0.82; Minimum Quantity: 1; Tolerance: ±5%; Datasheets: http://www.murata.com/~/media/webrenewal/support/library/catalog/products/capacitor/mlcc/c02e.pdf; Image: //media.digikey.com/Renders/Murata%20Renders/1210-3225-16.jpg; Digi-Key Part Number: 490-11648-1-ND; Quantity Available: 2000; @ qty: 0; Packaging: Cut Tape (CT); Series: GRM; Part Status: Active; Value: 10000pF; Voltage: 630V; Temperature Coefficient: U2J; Operating Temperature: -55°C ~ 125°C; Features: -; Ratings: -; Applications: General Purpose; Failure Rate: Surface Mount, MLCC; Mounting Type: 1210 (3225 Metric); Package / Case: 0.126" L x 0.098" W (3.20mm x 2.50mm); Size / Dimension: -; Height - Seated (Max): 0.087" (2.20mm); Thickness (Max): -; Lead Spacing: -
footprint SMD-1210C
pins: 1, 2

## GRM32D7U3A222JW31L
designator C?, comment 2200pF
CAP CER 2200PF 1KV U2J 1210; Part Number: GRM32D7U3A222JW31L; Manufacturer: Murata Electronics North America; Factory Stock: 0; Unit Price (USD): 0.77; Minimum Quantity: 1; Tolerance: ±5%; Voltage: 1000V (1kV); Datasheets: http://www.murata.com/~/media/webrenewal/support/library/catalog/products/capacitor/mlcc/c02e.pdf; Image: //media.digikey.com/Renders/Murata%20Renders/1210-3225-16.jpg; Digi-Key Part Number: 490-12018-1-ND; Quantity Available: 1032; @ qty: 0; Packaging: Cut Tape (CT); Series: GRM; Part Status: Active; Value: 2200pF; Temperature Coefficient: U2J; Operating Temperature: -55°C ~ 125°C; Features: -; Ratings: -; Applications: General Purpose; Failure Rate: Surface Mount, MLCC; Mounting Type: 1210 (3225 Metric); Package / Case: 0.126" L x 0.098" W (3.20mm x 2.50mm); Size / Dimension: -; Height - Seated (Max): 0.087" (2.20mm); Thickness (Max): -; Lead Spacing: -
footprint SMD-1210C
pins: 1, 2

## GRM32DC81E106KA12L
designator C?, comment 10µF
CAP CER 10UF 25V X6S 1210; Part Number: GRM32DC81E106KA12L; Manufacturer: Murata Electronics North America; Factory Stock: 0; Unit Price (USD): 0.52; Minimum Quantity: 1; Tolerance: ±10%; Datasheets: http://www.murata.com/~/media/webrenewal/support/library/catalog/products/capacitor/mlcc/c02e.pdf; Image: //media.digikey.com/Renders/Murata%20Renders/1210-3225-16.jpg; Digi-Key Part Number: 490-8351-1-ND; Quantity Available: 1477; @ qty: 0; Packaging: Cut Tape (CT); Series: GRM; Part Status: Active; Value: 10µF; Voltage: 25V; Temperature Coefficient: X6S; Operating Temperature: -55°C ~ 105°C; Features: -; Ratings: -; Applications: General Purpose; Failure Rate: Surface Mount, MLCC; Mounting Type: 1210 (3225 Metric); Package / Case: 0.126" L x 0.098" W (3.20mm x 2.50mm); Size / Dimension: -; Height - Seated (Max): 0.087" (2.20mm); Thickness (Max): -; Lead Spacing: -
footprint SMD-1210C
pins: 1, 2

## GRM32DR60J226KA01L
designator C?, comment 22µF
CAP CER 22UF 6.3V X5R 1210; Part Number: GRM32DR60J226KA01L; Manufacturer: Murata Electronics North America; Factory Stock: 0; Unit Price (USD): 0.7; Minimum Quantity: 1; Tolerance: ±10%; Datasheets: http://www.murata.com/~/media/webrenewal/support/library/catalog/products/capacitor/mlcc/c02e.pdf; Image: //media.digikey.com/Renders/Murata%20Renders/1210-3225-16.jpg; Digi-Key Part Number: 490-1886-1-ND; Quantity Available: 4968; @ qty: 0; Packaging: Cut Tape (CT); Series: GRM; Part Status: Active; Value: 22µF; Voltage: 6.3V; Temperature Coefficient: X5R; Operating Temperature: -55°C ~ 85°C; Features: -; Ratings: -; Applications: General Purpose; Failure Rate: Surface Mount, MLCC; Mounting Type: 1210 (3225 Metric); Package / Case: 0.126" L x 0.098" W (3.20mm x 2.50mm); Size / Dimension: -; Height - Seated (Max): 0.087" (2.20mm); Thickness (Max): -; Lead Spacing: -
footprint SMD-1210C
pins: 1, 2

## GRM32DR60J226MA01L
designator C?, comment 22µF
CAP CER 22UF 6.3V X5R 1210; Part Number: GRM32DR60J226MA01L; Manufacturer: Murata Electronics North America; Factory Stock: 0; Unit Price (USD): 0.7; Minimum Quantity: 1; Tolerance: ±20%; Datasheets: http://www.murata.com/~/media/webrenewal/support/library/catalog/products/capacitor/mlcc/c02e.pdf; Image: //media.digikey.com/Renders/Murata%20Renders/1210-3225-16.jpg; Digi-Key Part Number: 490-1885-1-ND; Quantity Available: 2053; @ qty: 0; Packaging: Cut Tape (CT); Series: GRM; Part Status: Active; Value: 22µF; Voltage: 6.3V; Temperature Coefficient: X5R; Operating Temperature: -55°C ~ 85°C; Features: -; Ratings: -; Applications: General Purpose; Failure Rate: Surface Mount, MLCC; Mounting Type: 1210 (3225 Metric); Package / Case: 0.126" L x 0.098" W (3.20mm x 2.50mm); Size / Dimension: -; Height - Seated (Max): 0.087" (2.20mm); Thickness (Max): -; Lead Spacing: -
footprint SMD-1210C
pins: 1, 2

## GRM32DR60J336ME19L
designator C?, comment 33µF
CAP CER 33UF 6.3V X5R 1210; Part Number: GRM32DR60J336ME19L; Manufacturer: Murata Electronics North America; Factory Stock: 0; Unit Price (USD): 1.04; Minimum Quantity: 1; Tolerance: ±20%; Datasheets: http://www.murata.com/~/media/webrenewal/support/library/catalog/products/capacitor/mlcc/c02e.pdf; Image: //media.digikey.com/Renders/Murata%20Renders/1210-3225-16.jpg; Digi-Key Part Number: 490-3389-1-ND; Quantity Available: 790; @ qty: 0; Packaging: Cut Tape (CT); Series: GRM; Part Status: Active; Value: 33µF; Voltage: 6.3V; Temperature Coefficient: X5R; Operating Temperature: -55°C ~ 85°C; Features: -; Ratings: -; Applications: General Purpose; Failure Rate: Surface Mount, MLCC; Mounting Type: 1210 (3225 Metric); Package / Case: 0.126" L x 0.098" W (3.20mm x 2.50mm); Size / Dimension: -; Height - Seated (Max): 0.087" (2.20mm); Thickness (Max): -; Lead Spacing: -
footprint SMD-1210C
pins: 1, 2

## GRM32DR61C106KA01L
designator C?, comment 10µF
CAP CER 10UF 16V X5R 1210; Part Number: GRM32DR61C106KA01L; Manufacturer: Murata Electronics North America; Factory Stock: 0; Unit Price (USD): 0.48; Minimum Quantity: 1; Tolerance: ±10%; Datasheets: http://www.murata.com/~/media/webrenewal/support/library/catalog/products/capacitor/mlcc/c02e.pdf; Image: //media.digikey.com/Renders/Murata%20Renders/1210-3225-16.jpg; Digi-Key Part Number: 490-1880-1-ND; Quantity Available: 7313; @ qty: 0; Packaging: Cut Tape (CT); Series: GRM; Part Status: Active; Value: 10µF; Voltage: 16V; Temperature Coefficient: X5R; Operating Temperature: -55°C ~ 85°C; Features: -; Ratings: -; Applications: General Purpose; Failure Rate: Surface Mount, MLCC; Mounting Type: 1210 (3225 Metric); Package / Case: 0.126" L x 0.098" W (3.20mm x 2.50mm); Size / Dimension: -; Height - Seated (Max): 0.087" (2.20mm); Thickness (Max): -; Lead Spacing: -
footprint SMD-1210C
pins: 1, 2